# Altium footprint library PCBKÜTÜPHANE.PcbLib: 16 footprints
Each footprint in its own frame and in the unit in brackets; x right, y up, seen from the top. Pads: shape width x height; smd on the part's side, far side on the other; paste and mask are expansions set on the pad; w line width, h text height; cw(c..) or ccw(c..) is an arc to the next point about the centre after c.
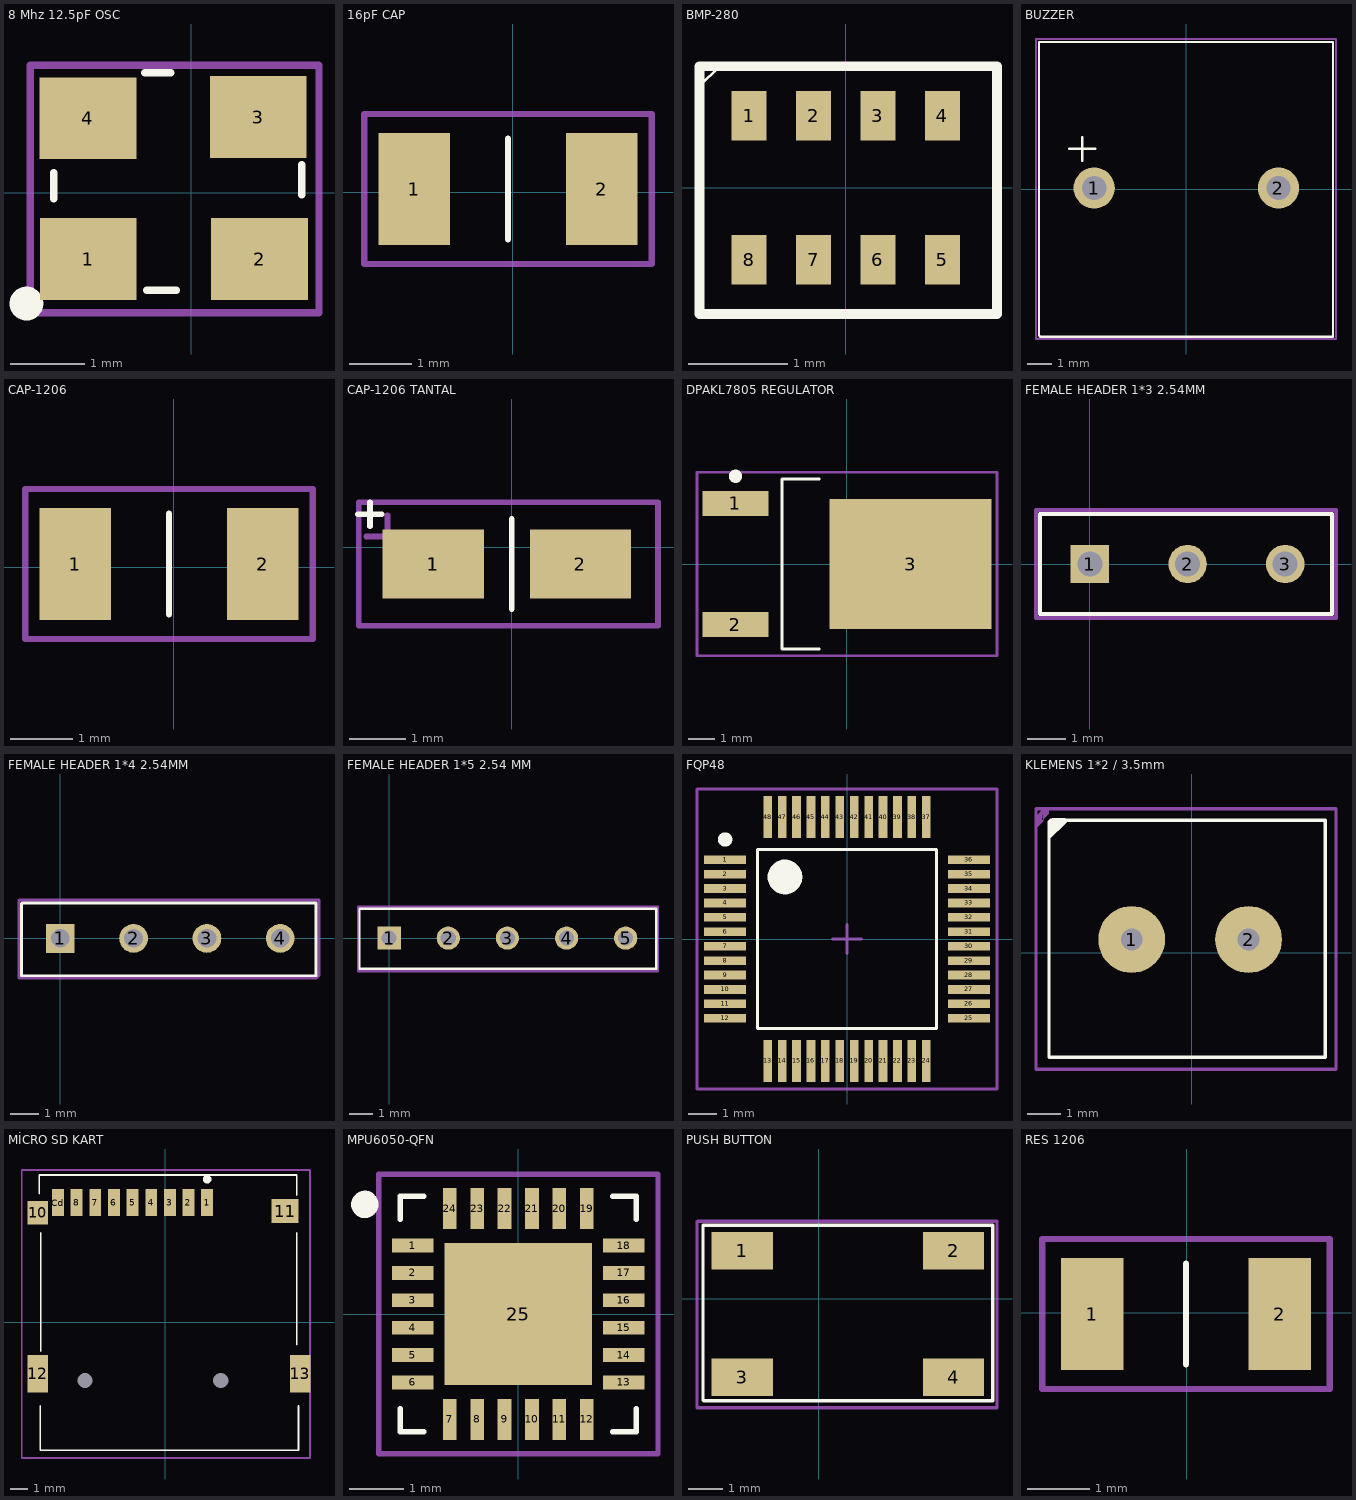
[diagram p0: the footprints below, top view; thin cyan lines are the x and y axes]

## 8 Mhz 12.5pF OSC [mm]
pads (4):
  rect 1.3x1.1 smd mask+0.05: 1(-1.381,-0.89) 2(0.919,-0.89) 3(0.903,1.017) 4(-1.386,1.001)
Top Overlay:
  circle w0.254: c-2.212,-1.489 r0.1
  lines w0.1: -1.845,-0.082 -1.845,0.272 ; -0.624,1.61 -0.27,1.61 ; -0.599,-1.311 -0.199,-1.311 ; 1.484,-0.024 1.484,0.376
Mechanical 3:
  circle w0.254: c-1.616,-0.924 r0.1
  lines w0.1: -2.161,-1.611 -2.161,1.713 1.718,1.713 1.718,-1.611 -2.161,-1.611
3D body "ASE3.STEP": height 1.22, standoff -0.03, extent -1.779,-1.041 1.421,1.459

## 16pF CAP [mm]
pads (2):
  rect 1.15x1.8 smd mask+0.05: 1(-1.575,0.05) 2(1.425,0.05)
Top Overlay:
  lines w0.1: -0.075,-0.755 -0.075,0.855
Mechanical 3:
  lines w0.1: -2.375,-1.15 -2.375,1.25 2.225,1.25 2.225,-1.15 -2.375,-1.15
3D body "1206CAP.step": height 1, standoff 0, extent -1.675,-0.75 1.525,0.85

## BMP-280 [mm]
pads (8):
  rect 0.35x0.5 smd: 1(-0.975,0.725) 2(-0.325,0.725) 3(0.325,0.725) 4(0.975,0.725) 5(0.975,-0.725) 6(0.325,-0.725) 7(-0.325,-0.725) 8(-0.975,-0.725)
Top Overlay:
  lines w0.025: -1.5,1 -1.25,1.25
  lines w0.1: -1.475,-1.275 1.525,-1.275 1.525,1.225 -1.475,1.225 -1.475,-1.275
Mechanical 13:
  region: -1.5,1 -1.266,1.234 -1.25,1.25
3D body "User Library-BMP280.step": height 1.05, standoff 0.09, extent -1.25,-1 1.25,1
3D body: height 0.25, standoff 0, extent -1.25,1.5 -1.25,1.5
3D body: height 0.25, standoff 0, extent -1,1.5 -1,1.5
3D body: height 0.25, standoff 0, extent -1,1.5 -1,1.5
3D body: height 0.95, standoff -0.01, extent -1,1.5 -1,1.5
3D body: height 0.95, standoff -0.01, extent -1.5,1.5 -1.5,1.5

## BUZZER [mm] "1*2"
pads (2):
  round 1.7 hole 1 mask+0.05: 1(-3.8,0.05) 2(3.8,0.05)
Top Overlay:
  lines w0.1: -4.825,1.675 -3.75,1.675 ; -4.3,1.175 -4.3,2.15 ; -6.075,-6.025 -6.075,6.075 6.05,6.075 6.05,-6.075 -6.025,-6.075 -6.075,-6.025
Mechanical 3:
  lines w0.1: -6.2,-6.175 -6.2,6.2 6.175,6.2 6.175,-6.175 -6.2,-6.175
3D body "cem-1205c.stp": height 9.5, standoff -4.5, extent -6,-6 6,6

## CAP-1206 [mm]
pads (2):
  rect 1.15x1.8 smd mask+0.05: 1(-1.575,0.05) 2(1.425,0.05)
Top Overlay:
  lines w0.1: -0.075,-0.755 -0.075,0.855
Mechanical 3:
  lines w0.1: -2.375,-1.15 2.225,-1.15 2.225,1.25 -2.375,1.25 -2.375,-1.15
3D body "1206CAP.step": height 1, standoff 0, extent -1.675,-0.75 1.525,0.85

## CAP-1206 TANTAL [mm]
pads (3):
  rect 1.8x1.23 smd: 1(-1.4,-0.3) 1(-1.4,-0.3) 2(1.22,-0.3)
Top Overlay:
  lines w0.1: -2.738,0.588 -2.313,0.588 ; -2.525,0.375 -2.525,0.8 ; 0,-1.1 0,0.5
Mechanical 3:
  lines w0.1: -2.594,0.189 -1.832,0.189 ; -2.213,-0.192 -2.213,0.57 ; -2.725,-1.4 -2.725,0.8 2.6,0.8 2.6,-1.4 -2.725,-1.4
3D body "User Library-CaseA_3216-18.step": height 1.62, standoff 0.02, extent -1.7,-1.1 1.5,0.5

## DPAKL7805 REGULATOR [mm]
height 2.3
pads (3):
  rect 2.5x0.95 smd mask+0.05: 1(-4.2,2.28) 2(-4.2,-2.28)
  rect 6.1x4.9 smd mask+0.05: 3(2.4,0)
Top Overlay:
  circle w0.25: c-4.2,3.305 r0.125
  lines w0.1: -1.05,-3.2 -2.45,-3.2 -2.45,3.2 -1.05,3.2
Mechanical 3:
  lines w0.1: -0.5,0 0.5,0 ; 0,-0.5 0,0.5 ; -5.65,-3.45 -5.65,3.45 5.65,3.45 5.65,-3.45 -5.65,-3.45
3D body "DPAKL7805 REGULATOR.step": height 3.3, standoff 0, extent -4.325,-3.2 5.5,3.2

## FEMALE HEADER 1*3 2.54MM [mm]
pads (3):
  rect 1x1 hole 0.65 unplated mask+0.05: 1(0,0)
  round 1 hole 0.65 unplated mask+0.05: 2(2.54,0) 3(5.08,0)
Top Overlay:
  lines w0.1: -1.3,-1.3 -1.3,1.3 6.3,1.3 6.3,-1.3 -1.3,-1.3
Mechanical 3:
  lines w0.1: -1.4,-1.4 -1.4,1.4 6.4,1.4 6.4,-1.4 -1.4,-1.4
3D body "User Library-RM254_3pin.step": height 6.72, standoff -2.4, extent -1.31,-1.25 6.31,1.29

## FEMALE HEADER 1*4 2.54MM [mm]
pads (4):
  rect 1x1 hole 0.65 unplated mask+0.05: 1(0,0)
  round 1 hole 0.65 unplated mask+0.05: 2(2.54,0) 3(5.08,0) 4(7.62,0)
Top Overlay:
  lines w0.1: -1.347,1.209 -1.347,-1.298 8.859,-1.298 8.859,1.228 -1.328,1.228
Mechanical 3:
  lines w0.1: -1.431,-1.377 0.877,-1.377 8.873,-1.377 8.964,-1.286 8.964,1.33 -1.42,1.33 -1.431,1.319 -1.431,1.226 -1.431,-1.377
3D body "User Library-RM254_4pin.step": height 6.72, standoff -2.4, extent -1.34,-1.3 8.82,1.24

## FEMALE HEADER 1*5 2.54 MM [mm]
pads (5):
  rect 1x1 hole 0.65 unplated mask+0.05: 1(0,0)
  round 1 hole 0.65 unplated mask+0.05: 2(2.54,0) 3(5.08,0) 4(7.62,0) 5(10.16,0)
Top Overlay:
  lines w0.1: -1.277,-1.321 3.179,-1.321 11.474,-1.321 11.474,1.257 -1.276,1.257 -1.276,-1.32
Mechanical 3:
  lines w0.1: -1.34,1.342 11.55,1.342 11.55,-1.424 -1.333,-1.424 -1.333,1.281
3D body "User Library-RM254_5pin.step": height 6.72, standoff -2.4, extent -1.25,-1.3 11.45,1.24

## FQP48 [mm]
height 1.6
pads (48):
  rect 1.45x0.3 smd mask+0.05: 1(-4.225,2.75) 2(-4.225,2.25) 3(-4.225,1.75) 4(-4.225,1.25) 5(-4.225,0.75) 6(-4.225,0.25) 7(-4.225,-0.25) 8(-4.225,-0.75) 9(-4.225,-1.25) 10(-4.225,-1.75) 11(-4.225,-2.25) 12(-4.225,-2.75) 25(4.225,-2.75) 26(4.225,-2.25) 27(4.225,-1.75) 28(4.225,-1.25) 29(4.225,-0.75) 30(4.225,-0.25) 31(4.225,0.25) 32(4.225,0.75) 33(4.225,1.25) 34(4.225,1.75) 35(4.225,2.25) 36(4.225,2.75)
  rect 0.3x1.45 smd mask+0.05: 13(-2.75,-4.225) 14(-2.25,-4.225) 15(-1.75,-4.225) 16(-1.25,-4.225) 17(-0.75,-4.225) 18(-0.25,-4.225) 19(0.25,-4.225) 20(0.75,-4.225) 21(1.25,-4.225) 22(1.75,-4.225) 23(2.25,-4.225) 24(2.75,-4.225) 37(2.75,4.225) 38(2.25,4.225) 39(1.75,4.225) 40(1.25,4.225) 41(0.75,4.225) 42(0.25,4.225) 43(-0.25,4.225) 44(-0.75,4.225) 45(-1.25,4.225) 46(-1.75,4.225) 47(-2.25,4.225) 48(-2.75,4.225)
Top Overlay:
  circle w0.6: c-2.15,2.15 r0.3
  circle w0.25: c-4.225,3.45 r0.125
  lines w0.1: -3.1,-3.1 3.1,-3.1 3.1,3.1 -3.1,3.1 -3.1,-3.1
Mechanical 3:
  lines w0.1: -0.5,0 0.5,0 ; 0,-0.5 0,0.5 ; -5.2,-5.2 5.2,-5.2 5.2,5.2 -5.2,5.2 -5.2,-5.2
3D body "FQP48.step": height 1.6, standoff 0, extent -4.5,-4.5 4.5,4.5

## KLEMENS 1*2 / 3.5mm [mm]
pads (2):
  round 2 hole 0.65: 1(-1.8,0.4) 2(1.7,0.4)
Top Overlay:
  region: -3.733,3.932 -4.306,3.359 -4.306,3.894 -4.172,4.028 -3.793,4.028
  lines w0.1: -4.275,3.925 -4.275,-3.125 4,-3.125 4,3.975 -4.225,3.975
Mechanical 3:
  region: -4.448,4.31 -4.664,4.094 -4.664,4.312 -4.662,4.31 -4.448,4.31 -4.448,3.946 -4.662,3.732 -4.662,4.31 -4.448,4.31 -4.441,4.303 -4.282,4.303 -4.282,4.159 -4.485,3.957
  lines w0.1: -4.662,-3.472 -4.662,4.31 -4.448,4.31 4.317,4.31 4.317,-3.481 -4.653,-3.481 -4.662,-3.472
3D body "terminal_blocks_a-tb350-te02.stp": height 8.9, standoff -3.29, extent -4.1,-3 3.894,4

## MİCRO SD KART [mm] "SD CARD HOLDER"
pads (15):
  rect 0.7x1.6 smd paste+0 mask+0: 1(2.484,7.075) 2(1.384,7.075) 3(0.284,7.075) 4(-0.816,7.075) 5(-1.916,7.075) 6(-3.016,7.075) 7(-4.116,7.075) 8(-5.216,7.075) Cd(-6.316,7.075)
  rect 1.2x1.4 smd paste+0 mask+0: 10(-7.516,6.475)
  rect 1.6x1.4 smd paste+0 mask+0: 11(7.084,6.575)
  rect 1.2x2.2 smd paste+0 mask+0: 12(-7.516,-3.025) 13(7.984,-3.025)
  round 0 hole 0.9 unplated paste-1000 mask+0: ""(-4.716,-3.425) ""(3.284,-3.425)
Top Overlay:
  circle w0.25: c2.484,8.45 r0.125
  lines w0.1: -7.425,7.6 -7.425,8.7 7.775,8.7 7.775,7.5 ; -7.357,-4.925 -7.357,-7.548 7.875,-7.548 7.875,-4.925 ; -7.325,-1.7 -7.325,5.3 ; 7.775,-1.3 7.775,5.3
Mechanical 3:
  lines w0.1: -8.45,-8 -8.45,9 -7.95,9 8.3,9 8.55,9 8.55,-8 -8.45,-8
3D body "User Library-MEM2055-00-190-01-A_revG.step": height 1.85, standoff -0.6, extent -7.767,-7.42 8.233,7.83

## MPU6050-QFN [mm] "QFN, 24-Leads, Body 3,95x3,95mm, Pitch 0,50mm, Thermal Pad 2,70x2,60mm, IPC Medium Density"
height 0.95
pads (25):
  rect 0.75x0.25 smd mask+0.05: 1(-1.925,1.25) 2(-1.925,0.75) 3(-1.925,0.25) 4(-1.925,-0.25) 5(-1.925,-0.75) 6(-1.925,-1.25) 13(1.925,-1.25) 14(1.925,-0.75) 15(1.925,-0.25) 16(1.925,0.25) 17(1.925,0.75) 18(1.925,1.25)
  rect 0.25x0.75 smd mask+0.05: 7(-1.25,-1.925) 8(-0.75,-1.925) 9(-0.25,-1.925) 10(0.25,-1.925) 11(0.75,-1.925) 12(1.25,-1.925) 19(1.25,1.925) 20(0.75,1.925) 21(0.25,1.925) 22(-0.25,1.925) 23(-0.75,1.925) 24(-1.25,1.925)
  rect 2.7x2.6 smd: 25(0,0)
Top Overlay:
  circle w0.25: c-2.8,2 r0.125
  lines w0.1: -2.15,-1.725 -2.15,-2.15 -1.725,-2.15 ; -2.15,1.725 -2.15,2.15 -1.725,2.15 ; 1.725,-2.15 2.15,-2.15 2.15,-1.725 ; 1.725,2.15 2.15,2.15 2.15,1.725
Mechanical 3:
  lines w0.1: -0.5,0 0.5,0 ; 0,-0.5 0,0.5 ; -2.55,-2.55 -2.55,2.55 2.55,2.55 2.55,-2.55 -2.55,-2.55
3D body "MPU6050-QFN.step": height 0.95, standoff 0, extent -2.02,-2.02 2.02,2.02

## PUSH BUTTON [mm] "HAZIR"
pads (4):
  rect 1.8x1.1 smd mask+0.05: 1(-2.25,1.4) 2(3.95,1.4) 3(-2.25,-2.3) 4(3.95,-2.3)
Top Overlay:
  lines w0.1: -3.4,-2.975 -3.4,2.15 5.1,2.15 5.1,-3 -3.375,-3
Mechanical 3:
  lines w0.1: -3.575,-3.2 -3.575,2.25 -3.55,2.275 5.225,2.275 5.225,-3.2 -3.575,-3.2
3D body "User Library-4x4_SMD_Switch.step": height 1.5, standoff 0, extent -2.45,-3.1 3.95,2.1

## RES 1206 [mm]
pads (2):
  rect 1x1.8 smd mask+0.05: 1(-1.513,-0.017) 2(1.487,-0.017)
Top Overlay:
  lines w0.1: -0.012,-0.822 -0.012,0.788
Mechanical 3:
  lines w0.1: -2.313,-1.217 -2.313,1.183 2.287,1.183 2.287,-1.217 -2.313,-1.217
3D body "1206RES.step": height 0.55, standoff 0, extent -1.612,-0.822 1.588,0.788